# EAGLE library part B08B-JWPF-SK-R(LF)(SN) (library B08B-JWPF-SK-R_LF__SN_)
Check availability <https://pricing.snapeda.com/parts/B08B-JWPF-SK-R%28LF%29%28SN%29/JST%20Sales%20America%20Inc./view-part?ref=eda>
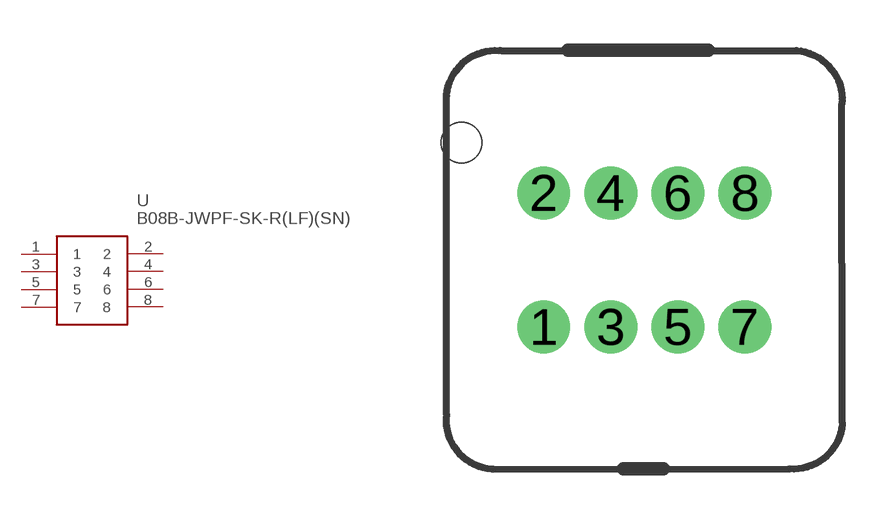
[diagram p0: symbol with the pads of B08B-JWPF-SK-R; footprint B08B-JWPF-SK-R]

Designator prefix -

## B08B-JWPF-SK-R(LF)(SN) (Availability: In Stock; Check_prices: https://www.snapeda.com/parts/B08B-JWPF-SK-R(LF)(SN)/JST+Sales+America+Inc./view-part/?ref=eda; Description: Connector Header Through Hole 8 position 0.079 (2.00mm); MF: JST Sales America Inc.; MP: B08B-JWPF-SK-R(LF)(SN); Package: None; Price: None; SnapEDA_Link: https://www.snapeda.com/parts/B08B-JWPF-SK-R(LF)(SN)/JST+Sales+America+Inc./view-part/?ref=snap)  [B08B-JWPF-SK-R]
1  1
2  2
3  3
4  4
5  5
6  6
7  7
8  8

## Footprint B08B-JWPF-SK-R (pad centres in mm)
drill 1.05 pad 1.575: 1 3.2,4.2; 2 3.2,8.2; 3 5.2,4.2; 4 5.2,8.2; 5 7.2,4.2; 6 7.2,8.2; 7 9.2,4.2; 8 9.2,8.2
hole 1.2 at 0.75,9.7